# Altium footprint library WDUExtensionBoard.PcbLib: 2 footprints
Each footprint in its own frame and in the unit in brackets; x right, y up, seen from the top. Pads: shape width x height; smd on the part's side, far side on the other; paste and mask are expansions set on the pad; w line width, h text height; cw(c..) or ccw(c..) is an arc to the next point about the centre after c.
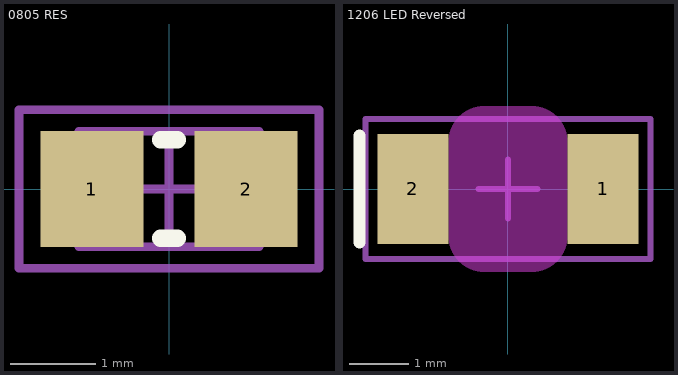
[diagram p0: the footprints below, top view; thin cyan lines are the x and y axes]

## 0805 RES [mm] "Chip Resistor, 2-Leads, Body 2,0x1,3mm, IPC Medium Density"
height 1.35
pads (2):
  rect 1.2x1.35 smd: 1(-0.9,0) 2(0.9,0)
Top Overlay:
  lines w0.2: -0.1,-0.575 0.1,-0.575 ; -0.1,0.575 0.1,0.575
Mechanical 13:
  lines w0.1: -1.05,-0.675 -1.05,0.675 1.05,0.675 1.05,-0.675 -1.05,-0.675
Mechanical 15:
  lines w0.1: -0.5,0 0.5,0 ; 0,-0.5 0,0.5 ; -1.75,-0.925 -1.75,0.925 1.75,0.925 1.75,-0.925 -1.75,-0.925
3D body: height 1, standoff 0, extent -1.05,-0.675 1.05,0.675

## 1206 LED Reversed [mm] "1206 Green LED"
height 0.5
pads (2):
  rect 1.2x1.85 smd: 1(1.6,0) 2(-1.6,0)
Top Overlay:
  lines w0.2: -2.5,-0.9 -2.5,0.9
Keep-Out Layer:
  lines w1.2: -0.4,-0.8 0.4,-0.8 0.4,0.8 -0.4,0.8 -0.4,-0.8
Mechanical 15:
  lines w0.1: -0.5,0 0.5,0 ; 0,-0.5 0,0.5 ; -2.4,-1.175 -2.4,1.175 2.4,1.175 2.4,-1.175 -2.4,-1.175
3D body: height 0.5, standoff 0, extent -1.6,-0.8 1.6,0.8
3D body: height 0, standoff -0.6, extent -1,-0.8 1,0.8